# EAGLE library part CONN_PROGRAMMEUR (library BMS_Slave_v2)
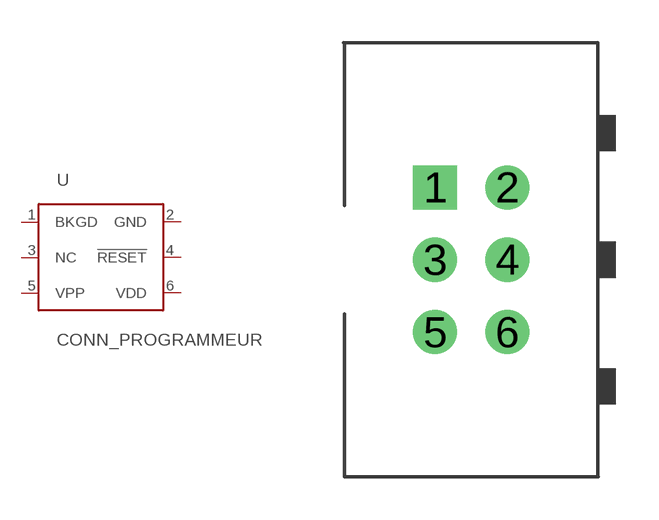
[diagram p11: symbol with the pads of CONNECTEUR_PROGRAMMEUR; footprint CONNECTEUR_PROGRAMMEUR]

Designator prefix -

## CONN_PROGRAMMEUR  [CONNECTEUR_PROGRAMMEUR]
1  BKGD
2  GND
3  NC
4  !RESET
5  VPP
6  VDD

## Footprint CONNECTEUR_PROGRAMMEUR (pad centres in mm)
drill 1.03 square: 1 -1.27,2.54
drill 1.03: 2 1.27,2.54; 3 -1.27,0; 4 1.27,0; 5 -1.27,-2.54; 6 1.27,-2.54